# EAGLE library part CON-VG_MABC96LP (library SE-Exp30)
CONNECTOR male, 96 pins, type C, rows ABC, grid 2.54 mm with mounting clip
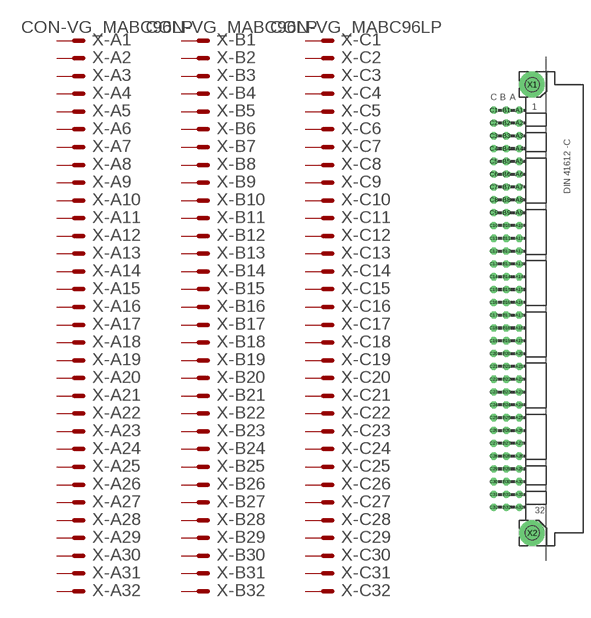
[diagram p2: symbol with the pads of CON-VG_MABC96LP; footprint CON-VG_MABC96LP]

Designator prefix X; gates -A1=CON-VG_MVAL -A2=CON-VG_MAL -A3=CON-VG_MAL -A4=CON-VG_MAL -A5=CON-VG_MAL -A6=CON-VG_MAL -A7=CON-VG_MAL -A8=CON-VG_MAL -A9=CON-VG_MAL -A10=CON-VG_MAL -A11=CON-VG_MAL -A12=CON-VG_MAL -A13=CON-VG_MAL -A14=CON-VG_MAL -A15=CON-VG_MAL -A16=CON-VG_MAL -A17=CON-VG_MAL -A18=CON-VG_MAL -A19=CON-VG_MAL -A20=CON-VG_MAL -A21=CON-VG_MAL -A22=CON-VG_MAL -A23=CON-VG_MAL -A24=CON-VG_MAL -A25=CON-VG_MAL -A26=CON-VG_MAL -A27=CON-VG_MAL -A28=CON-VG_MAL -A29=CON-VG_MAL -A30=CON-VG_MAL -A31=CON-VG_MAL -A32=CON-VG_MAL -B1=CON-VG_MVAL -B2=CON-VG_MAL -B3=CON-VG_MAL -B4=CON-VG_MAL -B5=CON-VG_MAL -B6=CON-VG_MAL -B7=CON-VG_MAL -B8=CON-VG_MAL -B9=CON-VG_MAL -B10=CON-VG_MAL -B11=CON-VG_MAL -B12=CON-VG_MAL -B13=CON-VG_MAL -B14=CON-VG_MAL -B15=CON-VG_MAL -B16=CON-VG_MAL -B17=CON-VG_MAL -B18=CON-VG_MAL -B19=CON-VG_MAL -B20=CON-VG_MAL -B21=CON-VG_MAL -B22=CON-VG_MAL -B23=CON-VG_MAL -B24=CON-VG_MAL -B25=CON-VG_MAL -B26=CON-VG_MAL -B27=CON-VG_MAL -B28=CON-VG_MAL -B29=CON-VG_MAL -B30=CON-VG_MAL -B31=CON-VG_MAL -B32=CON-VG_MAL -C1=CON-VG_MVAL -C2=CON-VG_MAL -C3=CON-VG_MAL -C4=CON-VG_MAL -C5=CON-VG_MAL -C6=CON-VG_MAL -C7=CON-VG_MAL -C8=CON-VG_MAL -C9=CON-VG_MAL -C10=CON-VG_MAL -C11=CON-VG_MAL -C12=CON-VG_MAL -C13=CON-VG_MAL -C14=CON-VG_MAL -C15=CON-VG_MAL -C16=CON-VG_MAL -C17=CON-VG_MAL -C18=CON-VG_MAL -C19=CON-VG_MAL -C20=CON-VG_MAL -C21=CON-VG_MAL -C22=CON-VG_MAL -C23=CON-VG_MAL -C24=CON-VG_MAL -C25=CON-VG_MAL -C26=CON-VG_MAL -C27=CON-VG_MAL -C28=CON-VG_MAL -C29=CON-VG_MAL -C30=CON-VG_MAL -C31=CON-VG_MAL -C32=CON-VG_MAL

## CON-VG_MABC96LP  [CON-VG_MABC96LP]
A1  -A1:S  pas
A2  -A2:S  pas
A3  -A3:S  pas
A4  -A4:S  pas
A5  -A5:S  pas
A6  -A6:S  pas
A7  -A7:S  pas
A8  -A8:S  pas
A9  -A9:S  pas
A10  -A10:S  pas
A11  -A11:S  pas
A12  -A12:S  pas
A13  -A13:S  pas
A14  -A14:S  pas
A15  -A15:S  pas
A16  -A16:S  pas
A17  -A17:S  pas
A18  -A18:S  pas
A19  -A19:S  pas
A20  -A20:S  pas
A21  -A21:S  pas
A22  -A22:S  pas
A23  -A23:S  pas
A24  -A24:S  pas
A25  -A25:S  pas
A26  -A26:S  pas
A27  -A27:S  pas
A28  -A28:S  pas
A29  -A29:S  pas
A30  -A30:S  pas
A31  -A31:S  pas
A32  -A32:S  pas
B1  -B1:S  pas
B2  -B2:S  pas
B3  -B3:S  pas
B4  -B4:S  pas
B5  -B5:S  pas
B6  -B6:S  pas
B7  -B7:S  pas
B8  -B8:S  pas
B9  -B9:S  pas
B10  -B10:S  pas
B11  -B11:S  pas
B12  -B12:S  pas
B13  -B13:S  pas
B14  -B14:S  pas
B15  -B15:S  pas
B16  -B16:S  pas
B17  -B17:S  pas
B18  -B18:S  pas
B19  -B19:S  pas
B20  -B20:S  pas
B21  -B21:S  pas
B22  -B22:S  pas
B23  -B23:S  pas
B24  -B24:S  pas
B25  -B25:S  pas
B26  -B26:S  pas
B27  -B27:S  pas
B28  -B28:S  pas
B29  -B29:S  pas
B30  -B30:S  pas
B31  -B31:S  pas
B32  -B32:S  pas
C1  -C1:S  pas
C2  -C2:S  pas
C3  -C3:S  pas
C4  -C4:S  pas
C5  -C5:S  pas
C6  -C6:S  pas
C7  -C7:S  pas
C8  -C8:S  pas
C9  -C9:S  pas
C10  -C10:S  pas
C11  -C11:S  pas
C12  -C12:S  pas
C13  -C13:S  pas
C14  -C14:S  pas
C15  -C15:S  pas
C16  -C16:S  pas
C17  -C17:S  pas
C18  -C18:S  pas
C19  -C19:S  pas
C20  -C20:S  pas
C21  -C21:S  pas
C22  -C22:S  pas
C23  -C23:S  pas
C24  -C24:S  pas
C25  -C25:S  pas
C26  -C26:S  pas
C27  -C27:S  pas
C28  -C28:S  pas
C29  -C29:S  pas
C30  -C30:S  pas
C31  -C31:S  pas
C32  -C32:S  pas

## Footprint CON-VG_MABC96LP (pad centres in mm)
CONNECTOR male, 96 pins, type C, rows ABC, grid 2.54 mm with mounting clip
drill 0.914 octagon: A1 -2.54,39.37; A2 -2.54,36.83; A3 -2.54,34.29; A4 -2.54,31.75; A5 -2.54,29.21; A6 -2.54,26.67; A7 -2.54,24.13; A8 -2.54,21.59; A9 -2.54,19.05; A10 -2.54,16.51; A11 -2.54,13.97; A12 -2.54,11.43; A13 -2.54,8.89; A14 -2.54,6.35; A15 -2.54,3.81; A16 -2.54,1.27; A17 -2.54,-1.27; A18 -2.54,-3.81; A19 -2.54,-6.35; A20 -2.54,-8.89; A21 -2.54,-11.43; A22 -2.54,-13.97; A23 -2.54,-16.51; A24 -2.54,-19.05; A25 -2.54,-21.59; A26 -2.54,-24.13; A27 -2.54,-26.67; A28 -2.54,-29.21; A29 -2.54,-31.75; A30 -2.54,-34.29; A31 -2.54,-36.83; A32 -2.54,-39.37; B1 -5.08,39.37; B2 -5.08,36.83; B3 -5.08,34.29; B4 -5.08,31.75; B5 -5.08,29.21; B6 -5.08,26.67; B7 -5.08,24.13; B8 -5.08,21.59; B9 -5.08,19.05; B10 -5.08,16.51; B11 -5.08,13.97; B12 -5.08,11.43; B13 -5.08,8.89; B14 -5.08,6.35; B15 -5.08,3.81; B16 -5.08,1.27; B17 -5.08,-1.27; B18 -5.08,-3.81; B19 -5.08,-6.35; B20 -5.08,-8.89; B21 -5.08,-11.43; B22 -5.08,-13.97; B23 -5.08,-16.51; B24 -5.08,-19.05; B25 -5.08,-21.59; B26 -5.08,-24.13; B27 -5.08,-26.67; B28 -5.08,-29.21; B29 -5.08,-31.75; B30 -5.08,-34.29; B31 -5.08,-36.83; B32 -5.08,-39.37; C1 -7.62,39.37; C2 -7.62,36.83; C3 -7.62,34.29; C4 -7.62,31.75; C5 -7.62,29.21; C6 -7.62,26.67; C7 -7.62,24.13; C8 -7.62,21.59; C9 -7.62,19.05; C10 -7.62,16.51; C11 -7.62,13.97; C12 -7.62,11.43; C13 -7.62,8.89; C14 -7.62,6.35; C15 -7.62,3.81; C16 -7.62,1.27; C17 -7.62,-1.27; C18 -7.62,-3.81; C19 -7.62,-6.35; C20 -7.62,-8.89; C21 -7.62,-11.43; C22 -7.62,-13.97; C23 -7.62,-16.51; C24 -7.62,-19.05; C25 -7.62,-21.59; C26 -7.62,-24.13; C27 -7.62,-26.67; C28 -7.62,-29.21; C29 -7.62,-31.75; C30 -7.62,-34.29; C31 -7.62,-36.83; C32 -7.62,-39.37
drill 2.794 pad 5.08: X1 0,44.45; X2 0,-44.45
hole 2.794 at 0,44.45
hole 2.794 at 0,-44.45